# EAGLE library part L96 (library Deegou_IC)
multi-GNSS receiver module with embedded chip antenna Source: Datasheet <https://www.quectel.com/UploadImage/Downlad/Quectel_L96_Hardware_Design_V1.2.pdf>
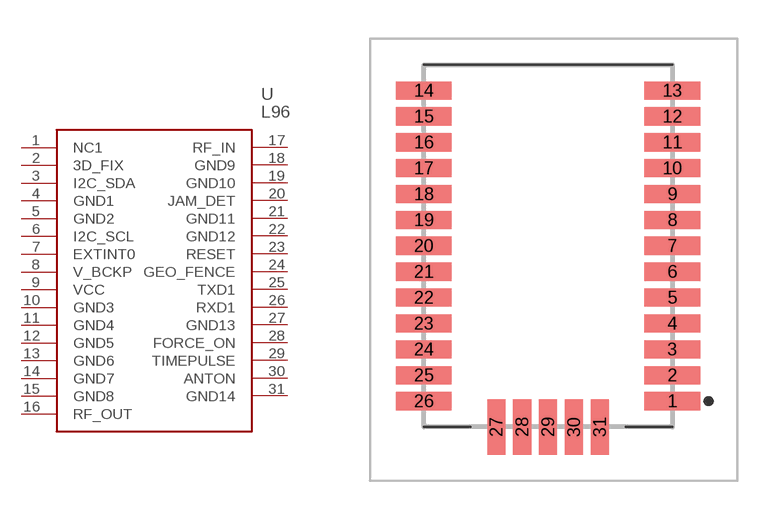
[diagram p158: symbol with the pads of L96; footprint L96]

Designator prefix U

## L96 (ARROW_PART_NUMBER: L96; DESCRIPTION: multi-GNSS receiver module with embedded chip antenna; HEIGHT: 2mm; MANUFACTURER_NAME: Quectel; MANUFACTURER_PART_NUMBER: L96)  [L96]
1  NC1
2  3D_FIX
3  I2C_SDA
4  GND1
5  GND2
6  I2C_SCL
7  EXTINT0
8  V_BCKP
9  VCC
10  GND3
11  GND4
12  GND5
13  GND6
14  GND7
15  GND8
16  RF_OUT
17  RF_IN
18  GND9
19  GND10
20  JAM_DET
21  GND11
22  GND12
23  RESET
24  GEO_FENCE
25  TXD1
26  RXD1
27  GND13
28  FORCE_ON
29  TIMEPULSE
30  ANTON
31  GND14

## Footprint L96 (pad centres in mm)
L96
smd 2.15 x 0.7: 1 4.587,-5.463; 2 4.587,-4.463; 3 4.587,-3.462; 4 4.587,-2.462; 5 4.587,-1.462; 6 4.587,-0.462; 7 4.587,0.538; 8 4.587,1.538; 9 4.587,2.538; 10 4.587,3.538; 11 4.587,4.538; 12 4.587,5.538; 13 4.587,6.538; 14 -5.013,6.538; 15 -5.013,5.538; 16 -5.013,4.538; 17 -5.013,3.538; 18 -5.013,2.538; 19 -5.013,1.538; 20 -5.013,0.538; 21 -5.013,-0.462; 22 -5.013,-1.462; 23 -5.013,-2.462; 24 -5.013,-3.462; 25 -5.013,-4.463; 26 -5.013,-5.463
smd 0.7 x 2.15: 27 -2.213,-6.463; 28 -1.213,-6.463; 29 -0.213,-6.463; 30 0.787,-6.463; 31 1.787,-6.463